# Altium footprint library BQ2980.PcbLib: 1 footprints
Each footprint in its own frame and in the unit in brackets; x right, y up, seen from the top. Pads: shape width x height; smd on the part's side, far side on the other; paste and mask are expansions set on the pad; w line width, h text height; cw(c..) or ccw(c..) is an arc to the next point about the centre after c.
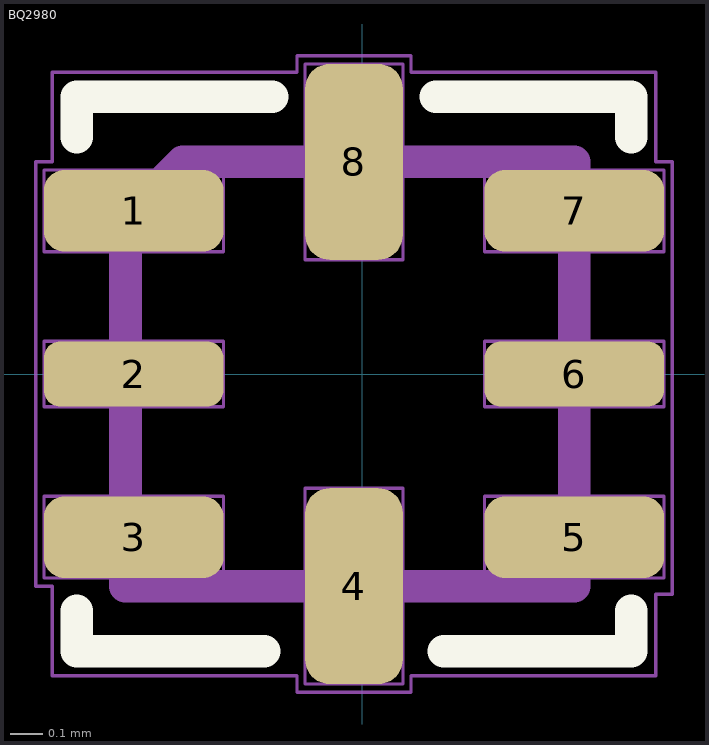
[diagram p0: the footprint, top view; thin cyan lines are the x and y axes]

## BQ2980 [mm]
pads (8):
  rrect50% 0.55x0.25 smd mask+0: 1(-0.7,0.5) 3(-0.7,-0.5) 5(0.65,-0.5) 7(0.65,0.5)
  rrect50% 0.55x0.2 smd mask+0: 2(-0.7,0) 6(0.65,0)
  rrect50% 0.3x0.6 smd mask+0: 4(-0.025,-0.65) 8(-0.025,0.65)
Top Overlay:
  lines w0.1: -0.875,-0.725 -0.875,-0.85 -0.3,-0.85 ; -0.875,0.725 -0.875,0.85 -0.275,0.85 ; 0.225,0.85 0.825,0.85 0.825,0.725 ; 0.25,-0.85 0.825,-0.85 0.825,-0.725
Mechanical 3:
  lines w0.1: -0.725,-0.575 -0.725,0.475 -0.55,0.65 0.65,0.65 0.65,-0.65 -0.725,-0.65 -0.725,-0.55
Mechanical 5:
  lines w0.01: -0.975,-0.625 -0.975,-0.375 -0.425,-0.375 -0.425,-0.625 -0.9,-0.625 -0.975,-0.625 ; -0.975,-0.1 -0.575,-0.1 -0.425,-0.1 -0.425,0.1 -0.975,0.1 -0.975,-0.1 ; -0.975,0.375 -0.9,0.375 -0.425,0.375 -0.425,0.625 -0.975,0.625 -0.975,0.375 ; -0.175,-0.95 0.125,-0.95 0.125,-0.35 -0.025,-0.35 -0.175,-0.35 -0.175,-0.95 ; -0.175,0.35 -0.175,0.95 -0.025,0.95 0.125,0.95 0.125,0.35 -0.175,0.35 ; 0.375,-0.625 0.45,-0.625 0.925,-0.625 0.925,-0.375 0.375,-0.375 0.375,-0.625 ; 0.375,-0.1 0.375,0.1 0.925,0.1 0.925,-0.1 0.775,-0.1 0.375,-0.1 ; 0.375,0.375 0.45,0.375 0.925,0.375 0.925,0.625 0.375,0.625 0.375,0.375
Mechanical 7:
  lines w0.01: -1,-0.65 -0.95,-0.65 -0.95,-0.925 -0.2,-0.925 -0.2,-0.975 0.15,-0.975 0.15,-0.925 0.9,-0.925 0.9,-0.675 0.95,-0.675 0.95,0.65 0.9,0.65 0.9,0.925 0.15,0.925 0.15,0.975 -0.2,0.975 -0.2,0.925 -0.95,0.925 -0.95,0.65 -1,0.65 -1,-0.55 -1,-0.65
Mechanical 9:
  lines w0.01: -0.975,0.375 -0.425,0.375 -0.425,0.625 -0.975,0.625 -0.975,0.5 -0.975,0.375
  text "'.Designator'" at -5.775,-0.225 h1
3D body "RUG0008A.step": height 0.41, standoff 0, extent -0.825,-0.8 0.775,0.8
3D body: height 0.1, standoff 0, extent -1,-0.975 0.95,0.975
3D body: height 1.04, standoff 0, extent -1,-0.975 0.95,0.975